# Altium footprint library ABLS2-8.000MHZ-D4Y-T.PcbLib: 2 footprints
Each footprint in its own frame and in the unit in brackets; x right, y up, seen from the top. Pads: shape width x height; smd on the part's side, far side on the other; paste and mask are expansions set on the pad; w line width, h text height; cw(c..) or ccw(c..) is an arc to the next point about the centre after c.
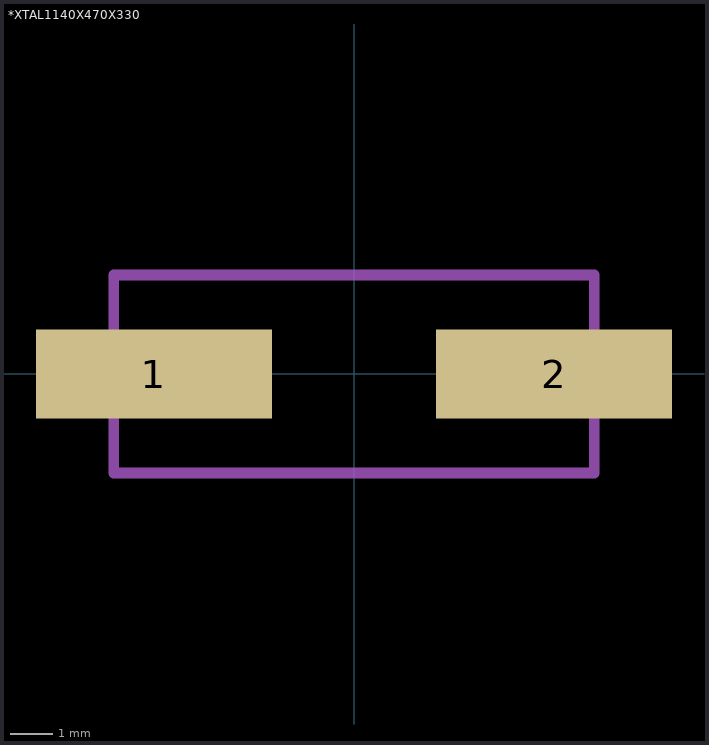
[diagram p0: the footprints below, top view; thin cyan lines are the x and y axes]

## *XTAL1140X470X330 [mm]
pads (2):
  rect 5.6x2.1 smd: 1(-4.752,-0.001) 2(4.748,-0.001)
Mechanical 13:
  lines w0.254: -5.701,-2.351 -5.701,2.349 ; -5.701,-2.351 5.699,-2.351 ; -5.701,-2.351 -5.701,2.349 ; -5.701,-2.351 5.699,-2.351 ; -5.701,2.349 5.699,2.349 ; -5.701,2.349 5.699,2.349 ; 5.699,-2.351 5.699,2.349 ; 5.699,-2.351 5.699,2.349

## PCBComponent_1 [mm]